# Altium schematic symbol library SCD1005.Schlib: 1 symbol
Pins are listed as number, name and electrical type; pins without a type are passive.

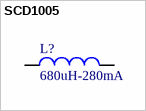
[diagram p0: symbol SCD1005]

## SCD1005
designator L?, comment 680uH-280mA
Power Inductor
pins: 1, 2